# Altium footprint library JACK.PCBLIB: 92 footprints (part 2 of 6)
Each footprint in its own frame and in the unit in brackets; x right, y up, seen from the top. Pads: shape width x height; smd on the part's side, far side on the other; paste and mask are expansions set on the pad; w line width, h text height; cw(c..) or ccw(c..) is an arc to the next point about the centre after c.
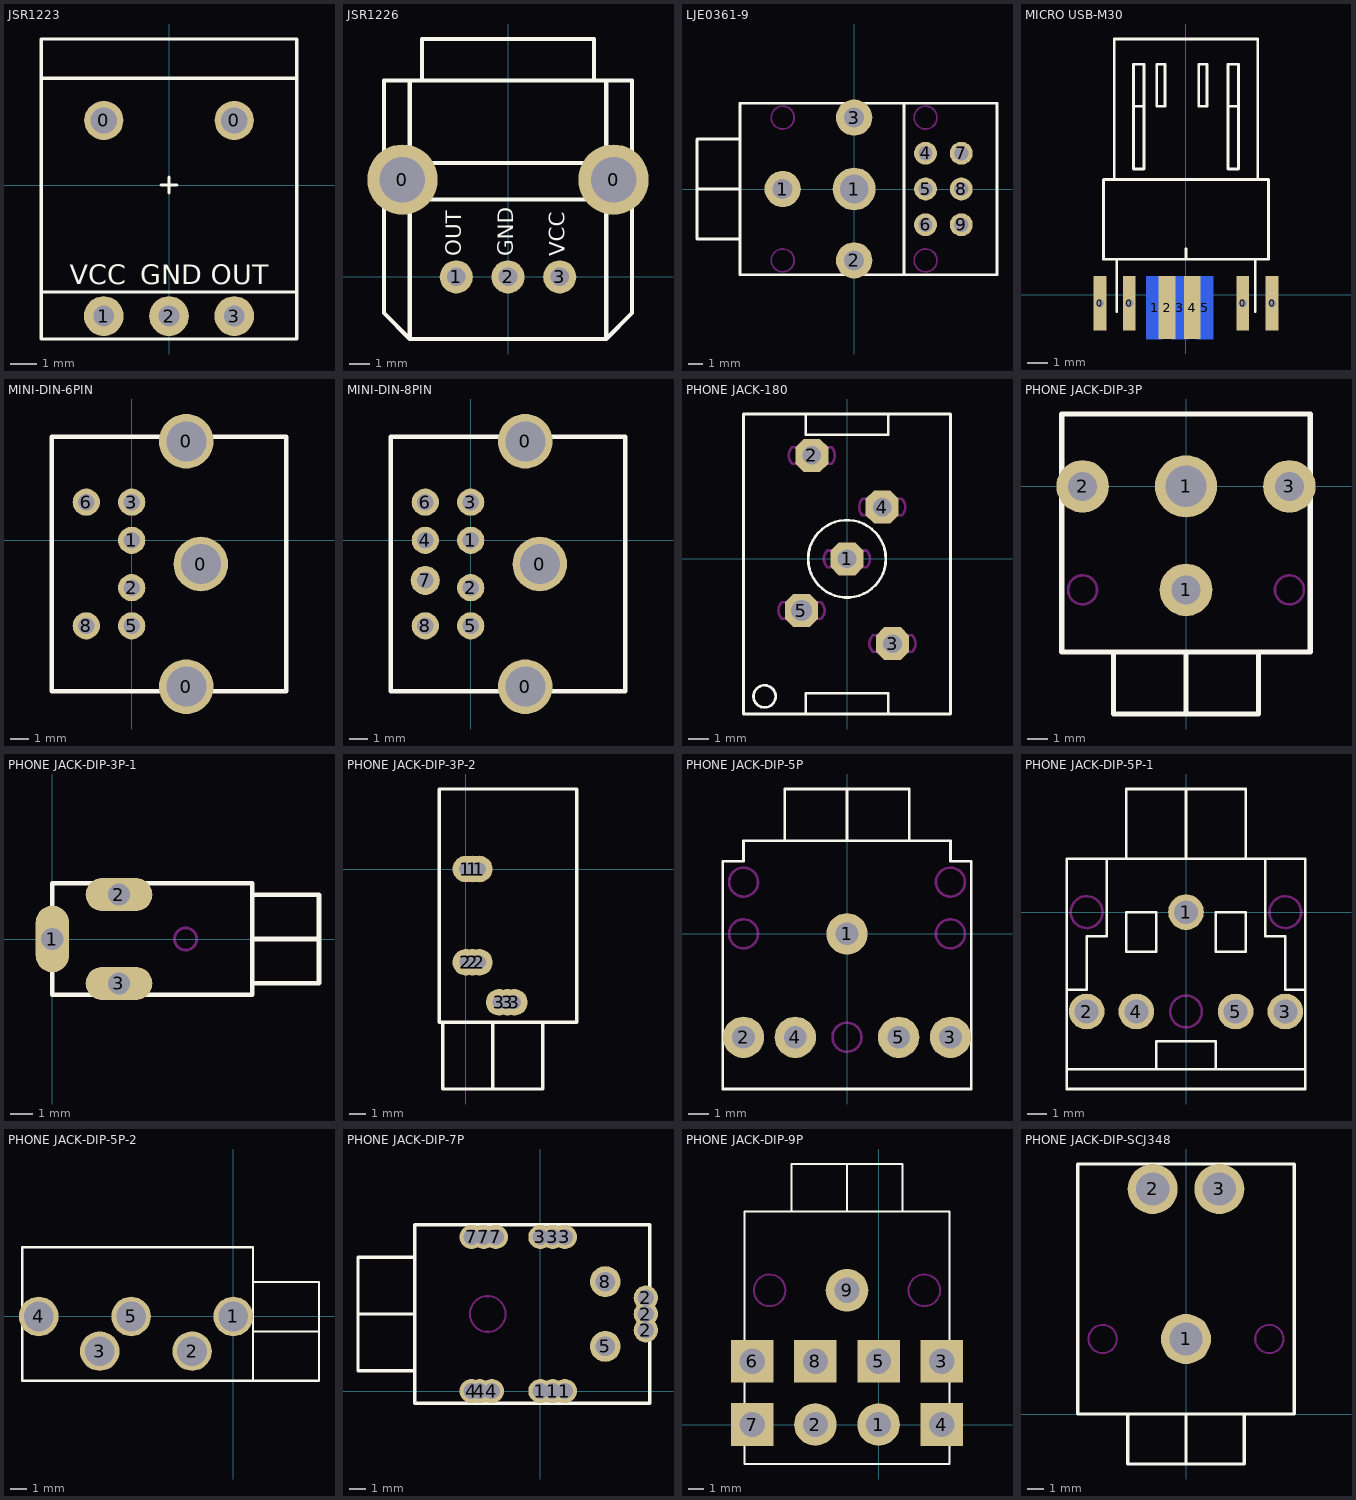
[diagram p1: the footprints below, top view; thin cyan lines are the x and y axes]

## JSR1223 [mm]
pads (5):
  round 1.5 hole 1: 0(-2.5,2.48) 0(2.5,2.48)
  round 1.524 hole 0.8: 1(-2.5,-5.02) 2(0,-5.02) 3(2.5,-5.02)
TopOverlay:
  lines w0.127: -4.9,-4.1 4.9,-4.1 ; -4.9,4.1 4.9,4.1 ; -0.3,0 0.3,0 ; 0,-0.3 0,0.3 ; -4.9,-5.9 4.9,-5.9 4.9,5.6 -4.9,5.6 -4.9,-5.9
  text "VCC" at -3.8,-3.8 h0.76
  text "OUT" at 1.6,-3.8 h0.76
  text "GND" at -1.1,-3.8 h0.76

## JSR1226 [mm]
pads (5):
  round 3.4 hole 2.2: 0(-5.1,4.7) 0(5.1,4.7)
  round 1.6 hole 0.9: 1(-2.5,0) 2(0,0) 3(2.5,0)
TopOverlay:
  lines w0.2: -6,3.75 6,3.75 ; -6,5.5 6,5.5 ; -4.75,9.5 -4.75,-3 ; -4.15,9.5 -4.15,11.5 4.15,11.5 4.15,9.5 ; 4.75,9.5 4.75,-3 ; -4.75,-3 4.75,-3 ; -4.75,-3 -6,-1.75 -6,9.5 6,9.5 6,-1.75 4.75,-3
  text "VCC" at 2.75,1 h0.76
  text "GND" at 0.25,1 h0.76
  text "OUT" at -2.25,1 h0.76

## LJE0361-9 [mm]
pads (10):
  round 2.54 hole 1.4: 1(-5,0) 2(0,-5) 3(0,5)
  round 3 hole 2: 1(0,0)
  round 1.6 hole 1: 4(5,2.5) 5(5,0) 6(5,-2.5) 7(7.5,2.5) 8(7.5,0) 9(7.5,-2.5)
TopOverlay:
  lines w0.2: -8,-3.5 -11,-3.5 -11,0 ; -8,3.5 -11,3.5 -11,0 ; -11,0 -9,0 -8,0 ; -8,0 -8,6 3.5,6 ; -8,0 -8,-6 3.5,-6 ; 3.5,-6 10,-6 10,6 3.5,6 ; 3.5,-6 3.5,6
KeepOutLayer:
  circle w0.127: c-5,-5 r0.8
  circle w0.127: c-5,5 r0.8
  circle w0.127: c5,-5 r0.8
  circle w0.127: c5,5 r0.8

## MICRO USB-M30 [mm]
pads (9):
  rect 0.6x2.6 hole 0.4: 0(-4.1,-0.4) 0(-2.7,-0.4) 0(2.7,-0.4) 0(4.1,-0.4)
  rect 0.8x3 smd far side: 1(-1.5,-0.6) 3(-0.3,-0.6) 5(0.9,-0.6)
  rect 0.8x3 smd: 2(-0.9,-0.6) 4(0.3,-0.6)
TopOverlay:
  lines w0.127: -3.425,5.5 -3.425,12.2 3.425,12.2 3.425,5.5 ; -3.3,-0.8 -3.3,1.7 ; -2.5,9 -2,9 ; 0,1.7 0,2.2 ; 2,9 2.5,9 ; 3.3,-0.8 3.3,1.7 ; -3.93,1.7 3.93,1.7 3.93,5.5 -3.93,5.5 -3.93,1.7 ; -2.5,6 -2.5,11 -2,11 -2,6 -2.5,6 ; -1.4,9 -1.4,11 -1,11 -1,9 -1.4,9 ; 0.6,9 0.6,11 1,11 1,9 0.6,9 ; 2,6 2,11 2.5,11 2.5,6 2,6

## MINI-DIN-6PIN [mm]
pads (9):
  round 3 hole 2.2: 0(3,-8.05) 0(3,5.45) 0(3.8,-1.3)
  round 1.5 hole 0.9: 1(0,0) 2(0,-2.6) 3(0,2.1) 5(0,-4.7) 6(-2.5,2.1) 8(-2.5,-4.7)
TopOverlay:
  lines w0.254: -4.4,-8.3 -4.4,5.7 8.5,5.7 8.5,-8.3 -4.4,-8.3

## MINI-DIN-8PIN [mm]
pads (11):
  round 3 hole 2.2: 0(3,-8.05) 0(3,5.45) 0(3.8,-1.3)
  round 1.5 hole 0.9: 1(0,0) 2(0,-2.6) 3(0,2.1) 4(-2.5,0) 5(0,-4.7) 6(-2.5,2.1) 8(-2.5,-4.7)
  round 1.6 hole 0.9: 7(-2.5,-2.2)
TopOverlay:
  lines w0.254: -4.4,-8.3 -4.4,5.7 8.5,5.7 8.5,-8.3 -4.4,-8.3

## PHONE JACK-180 [mm]
pads (5):
  oct 1.6x1.6 hole 0.9: 1(0,0) 2(-1.7,5) 3(2.2,-4.1) 4(1.7,2.5)
  oct 1.6x1.6 hole 1: 5(-2.2,-2.5)
TopOverlay:
  circle w0.127: c0,0 r1.874
  circle w0.127: c-3.983,-6.647 r0.535
  lines w0.127: -2,-7.5 -2,-6.5 2,-6.5 2,-7.5 ; -2,7 -2,6 2,6 2,7 ; -5,-7.5 -5,7 5,7 5,-7.5 -5,-7.5
KeepOutLayer:
  lines w0.127: -3.149,-2.899 cw(c-2.749,-2.499) -3.149,-2.099 -1.249,-2.099 cw(c-1.649,-2.499) -1.249,-2.899 -3.149,-2.899 ; -2.65,4.598 cw(c-2.25,4.998) -2.65,5.398 -0.75,5.398 cw(c-1.15,4.998) -0.75,4.598 -2.65,4.598 ; -0.95,-0.4 cw(c-0.55,0) -0.95,0.4 0.95,0.4 cw(c0.55,0) 0.95,-0.4 -0.95,-0.4 ; 0.75,2.099 cw(c1.15,2.499) 0.75,2.899 2.65,2.899 cw(c2.25,2.499) 2.65,2.099 0.75,2.099 ; 1.249,-4.498 cw(c1.649,-4.098) 1.249,-3.698 3.149,-3.698 cw(c2.749,-4.098) 3.149,-4.498 1.249,-4.498

## PHONE JACK-DIP-3P [mm]
pads (4):
  round 2.54 hole 1.4: 1(0,-5) 2(-5,0) 3(5,0)
  round 3 hole 2: 1(0,0)
TopOverlay:
  lines w0.254: -3.5,-8 -3.5,-11 0,-11 ; 3.5,-8 3.5,-11 0,-11 ; 0,-11 0,-9 0,-8 ; 0,-8 6,-8 6,3.5 -6,3.5 -6,-8 0,-8
KeepOutLayer:
  circle w0.127: c-5,-5 r0.7
  circle w0.127: c5,-5 r0.7

## PHONE JACK-DIP-3P-1 [mm]
pads (3):
  oval 1.5x3 hole 1: 1(0,0)
  oval 3x1.5 hole 1: 2(3,2) 3(3,-2)
TopOverlay:
  lines w0.203: 9,-2 12,-2 12,2 9,2 ; 9,0 12,0 ; 0,-2.5 9,-2.5 9,2.5 0,2.5 0,-2.5
KeepOutLayer:
  circle w0.127: c6,0 r0.5

## PHONE JACK-DIP-3P-2 [mm]
pads (9):
  round 1.6 hole 0.8: 1(0,0) 1(0.4,0) 1(0.8,0) 2(0,-5.6) 2(0.4,-5.6) 2(0.8,-5.6) 3(2,-8) 3(2.5,-8) 3(2.9,-8)
TopOverlay:
  lines w0.203: -1.4,-9.2 -1.4,-13.2 1.6,-13.2 ; 1.6,-9.2 1.6,-13.2 ; 4.6,-9.2 4.6,-13.2 1.6,-13.2 ; -1.6,-9.2 6.65,-9.2 6.65,4.8 -1.6,4.8 -1.6,-9.2

## PHONE JACK-DIP-5P [mm]
pads (5):
  round 2 hole 1.1: 1(0,0) 2(-5,-5) 3(5,-5) 4(-2.5,-5) 5(2.5,-5)
TopOverlay:
  lines w0.127: -3,4.5 -3,6.96 ; -3,7 3,7 ; 0,4.5 0,7 ; 3,4.5 3,6.96 ; -6,-7.5 -6,3.5 -5,3.5 -5,4.5 5,4.5 5,3.5 6,3.5 6,-7.5 -6,-7.5
KeepOutLayer:
  circle w0.127: c0,-5 r0.7
  circle w0.127: c-5,0 r0.7
  circle w0.127: c-5,2.5 r0.7
  circle w0.127: c5,2.5 r0.7
  circle w0.127: c5,0 r0.7

## PHONE JACK-DIP-5P-1 [mm]
pads (5):
  round 1.8 hole 1.2: 1(0,0) 2(-5,-5) 3(5,-5) 4(-2.5,-5) 5(2.5,-5)
TopOverlay:
  lines w0.127: -6,-7.9 6,-7.9 ; -5.923,-3.9 -5,-3.9 -5,-1.2 -4,-1.2 -4,2.7 ; -3,2.7 -3,6.2 3,6.2 3,2.7 ; -1.5,-7.9 -1.5,-6.5 1.5,-6.5 1.5,-7.9 ; 0,2.7 0,6.2 ; 4,2.7 4,-1.2 5,-1.2 5,-3.9 5.898,-3.9 ; -6,-8.9 -6,2.7 6,2.7 6,-8.9 -6,-8.9 ; -3,-2 -3,0 -1.5,0 -1.5,-2 -3,-2 ; 1.5,-2 1.5,0 3,0 3,-2 1.5,-2
KeepOutLayer:
  circle w0.127: c5,0 r0.8
  circle w0.127: c-5,0 r0.8
  circle w0.127: c0,-5 r0.8

## PHONE JACK-DIP-5P-2 [mm]
pads (5):
  round 2.4 hole 1.8: 1(0,0) 2(-2.5,-2.1) 3(-8.1,-2.1) 4(-11.8,0) 5(-6.2,0)
TopOverlay:
  lines w0.127: 1.2,-0.9 5.2,-0.9 ; 1.2,-3.9 1.2,2.1 ; 1.2,-3.9 -12.8,-3.9 -12.8,4.2 1.2,4.2 1.2,2.1 ; 1.2,-3.9 5.2,-3.9 5.2,2.1 1.2,2.1

## PHONE JACK-DIP-7P [mm]
pads (17):
  round 1.5 hole 1: 1(0,0) 1(0.75,0) 1(1.5,0) 2(6.5,3.75) 2(6.5,4.75) 2(6.5,5.75) 3(0,9.5) 3(0.75,9.5) 3(1.5,9.5) 4(-4.25,0) 4(-3.75,0) 4(-3,0) 7(-4.25,9.5) 7(-3.5,9.5) 7(-2.75,9.5)
  round 1.905 hole 1.2: 5(4,2.75) 8(4,6.75)
TopOverlay:
  lines w0.203: -7.75,1.25 -11.25,1.25 -11.25,4.75 ; -7.75,4.75 -11.25,4.75 ; -7.75,8.25 -11.25,8.25 -11.25,4.75 ; -7.75,-0.75 6.75,-0.75 6.75,10.25 -7.75,10.25 -7.75,-0.75
KeepOutLayer:
  circle w0.127: c-3.25,4.75 r1.1

## PHONE JACK-DIP-9P [mm]
pads (9):
  round 2.7 hole 1.6: 1(0,0) 2(-4,0) 9(-2,8.5)
  rect 2.7x2.7 hole 1.6: 3(4,4) 4(4,0) 5(0,4) 6(-8,4) 7(-8,0) 8(-4,4)
TopOverlay:
  lines w0.127: -5.5,13.501 -5.5,16.5 1.5,16.5 1.5,13.501 ; -2,13.5 -2,16.5 ; -8.5,-2.5 4.5,-2.5 4.5,13.5 -8.5,13.5 -8.5,-2.5
KeepOutLayer:
  circle w0.127: c-6.9,8.5 r1
  circle w0.127: c2.9,8.5 r1

## PHONE JACK-DIP-SCJ348 [mm]
pads (3):
  round 3 hole 2: 1(0,4.5) 2(-2,13.5) 3(2,13.5)
TopOverlay:
  lines w0.2: -3.5,0 -3.5,-3 0,-3 ; 0,0 0,-1 0,-3 ; 3.5,0 3.5,-3 0,-3 ; -6.5,0 6.5,0 6.5,15 -6.5,15 -6.5,0
KeepOutLayer:
  circle w0.127: c-5,4.5 r0.85
  circle w0.127: c5,4.5 r0.85